# EAGLE library part BQ25798 (library BQ25798 - Battery Charger)
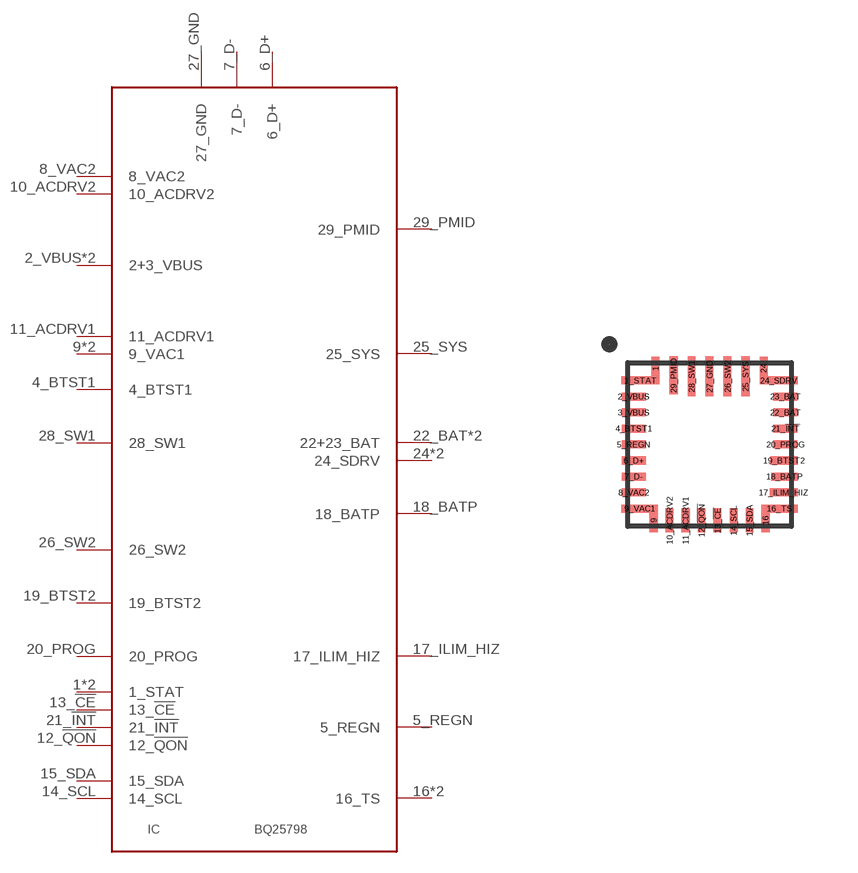
[diagram p0: symbol with the pads of QFN29; footprint QFN29]

Designator prefix IC

## BQ25798  [QFN29]
1  1_STAT  out
1_STAT  1_STAT  out
2_VBUS  2+3_VBUS  pwr
3_VBUS  2+3_VBUS  pwr
4_BTST1  4_BTST1  out
5_REGN  5_REGN  out
6_D+  6_D+
7_D-  7_D-
8_VAC2  8_VAC2  in
9  9_VAC1  in
9_VAC1  9_VAC1  in
10_ACDRV2  10_ACDRV2  out
11_ACDRV1  11_ACDRV1  out
12_!QON!  12_!QON!  in
13_!CE!  13_!CE!  in
14_SCL  14_SCL  in
15_SDA  15_SDA
16  16_TS  in
16_TS  16_TS  in
17_ILIM_HIZ  17_ILIM_HIZ  in
18_BATP  18_BATP  pwr
19_BTST2  19_BTST2  out
20_PROG  20_PROG  in
21_!INT!  21_!INT!  out
22_BAT  22+23_BAT  pwr
23_BAT  22+23_BAT  pwr
24  24_SDRV  out
24_SDRV  24_SDRV  out
25_SYS  25_SYS  pwr
26_SW2  26_SW2  pwr
27_GND  27_GND  pwr
28_SW1  28_SW1  pwr
29_PMID  29_PMID  out

## Footprint QFN29 (pad centres in mm)
smd 0.2 x 0.6: 1 -1.35,1.9; 9 -1.4,-1.9; 10_ACDRV2 -1,-1.9; 11_ACDRV1 -0.6,-1.9; 12_!QON! -0.2,-1.9; 13_!CE! 0.2,-1.9; 14_SCL 0.6,-1.9; 15_SDA 1,-1.9; 16 1.4,-1.9; 24 1.35,1.9
smd 0.95 x 0.2: 1_STAT -1.725,1.6; 24_SDRV 1.725,1.6
smd 0.6 x 0.2: 2_VBUS -1.9,1.2; 3_VBUS -1.9,0.8; 4_BTST1 -1.9,0.4; 5_REGN -1.9,0; 6_D+ -1.9,-0.4; 7_D- -1.9,-0.8; 8_VAC2 -1.9,-1.2; 20_PROG 1.9,0; 21_!INT! 1.9,0.4; 22_BAT 1.9,0.8; 23_BAT 1.9,1.2
smd 0.9 x 0.2: 9_VAC1 -1.75,-1.6; 16_TS 1.75,-1.6
smd 0.7 x 0.2: 17_ILIM_HIZ 1.85,-1.2
smd 0.65 x 0.2: 18_BATP 1.875,-0.8
smd 0.68 x 0.2: 19_BTST2 1.86,-0.4
smd 0.2 x 1: 25_SYS 0.9,1.7; 26_SW2 0.45,1.7; 27_GND 0,1.7; 28_SW1 -0.45,1.7
smd 0.2 x 0.95: 29_PMID -0.9,1.725